# Altium footprint library Connecteur.PcbLib: 164 footprints (part 11 of 11)
Each footprint in its own frame and in the unit in brackets; x right, y up, seen from the top. Pads: shape width x height; smd on the part's side, far side on the other; paste and mask are expansions set on the pad; w line width, h text height; cw(c..) or ccw(c..) is an arc to the next point about the centre after c.
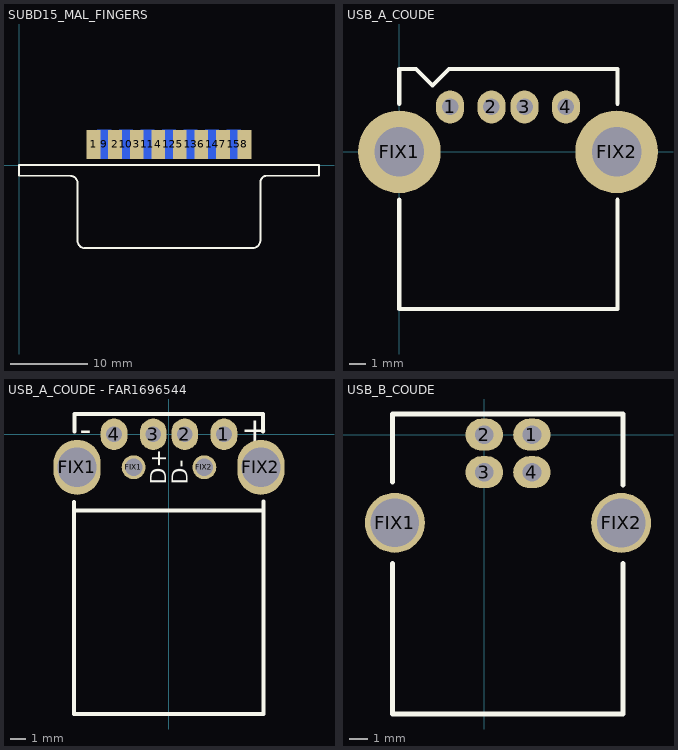
[diagram p10: the footprints below, top view; thin cyan lines are the x and y axes]

## SUBD15_MAL_FINGERS [mm] "Connector; SUBD; 15 Position; Male; Fingers; Pin Spacing=2.8mm"
height 6.2
pads (15):
  rect 1.8x3.8 smd: 1(9.7,2.7) 2(12.5,2.7) 3(15.3,2.7) 4(18.1,2.7) 5(20.9,2.7) 6(23.7,2.7) 7(26.5,2.7) 8(29.3,2.7)
  rect 1.8x3.8 smd far side: 9(11.1,2.7) 10(13.9,2.7) 11(16.7,2.7) 12(19.5,2.7) 13(22.3,2.7) 14(25.1,2.7) 15(27.9,2.7)
Top Overlay:
  lines w0.254: 6.6,-1.38 cw(c6.655,-2.355) 7.63,-2.3 ; 6.68,-1.38 0,-1.38 0,0 39,0 39,-1.38 32.2,-1.38 ccw(c32.245,-2.255) 31.37,-2.3 31.37,-9.7 cw(c30.335,-9.765) 30.4,-10.8 8.5,-10.8 cw(c8.565,-9.865) 7.63,-9.8 7.63,-2.33

## USB_A_COUDE [mm] "Connector; USB; Type A; Right Angle; Pin Spacing=2mm/2.5mm & 13.14mm"
height 10.2
pads (6):
  oval 1.7x2 hole 1: 1(3.07,2.71) 2(5.57,2.71) 3(7.57,2.71) 4(10.07,2.71)
  round 5 hole 3: FIX1(0,0) FIX2(13.14,0)
Top Overlay:
  lines w0.254: 0,-2.9 0,-9.5 13.2,-9.5 13.2,-2.9 ; 0,2.9 0,5 1,5 2,4 ; 13.2,2.9 13.2,5 3,5 2,4 ; 2,4 2,4

## USB_A_COUDE - FAR1696544 [mm]
height 4.5
pads (8):
  oval 1.7x2 hole 1: 1(3.5,0) 2(1,0) 3(-1,0) 4(-3.5,0)
  oval 3x3.5 hole 2.5: FIX1(-5.85,-2.1) FIX2(5.85,-2.1)
  round 1.524 hole 1.1: FIX1(-2.25,-2.1) FIX2(2.25,-2.1)
Top Overlay:
  lines w0.254: -6.045,-4.318 -6.045,-17.805 6.02,-17.805 6.02,-4.267 ; -6.02,0.19 -6.02,1.29 -4.57,1.29 5.994,1.29 5.994,0.19 ; -5.969,-4.851 5.994,-4.851
  text "D+" at -0.178,-3.2 h1.02
  text "D-" at 1.194,-3.226 h1.02
  text "-" at -5.69,-0.406 h1.52
  text "+" at 4.597,-0.432 h1.52

## USB_B_COUDE [mm] "Connector; USB; type B; 4 Position; Pin Spacing=2.54mm/12.07mm"
height 12
pads (6):
  oval 2x1.7 hole 1: 1(2.54,0) 2(0,0) 3(0,-2) 4(2.54,-2)
  round 3.2 hole 2.6: FIX1(-4.77,-4.7) FIX2(7.3,-4.71)
Top Overlay:
  lines w0.254: -4.9,-6.858 -4.9,-14.9 7.4,-14.9 7.4,-6.858 ; -4.9,-2.54 -4.9,1.1 7.4,1.1 7.4,-2.7
3D body: height 10.75, standoff -3.47, extent -6.096,-15.389 8.763,0.911